# Altium footprint library footprint_hall_crossboard_1_1_library.PcbLib: 95 footprints (part 5 of 7)
Each footprint in its own frame and in the unit in brackets; x right, y up, seen from the top. Pads: shape width x height; smd on the part's side, far side on the other; paste and mask are expansions set on the pad; w line width, h text height; cw(c..) or ccw(c..) is an arc to the next point about the centre after c.
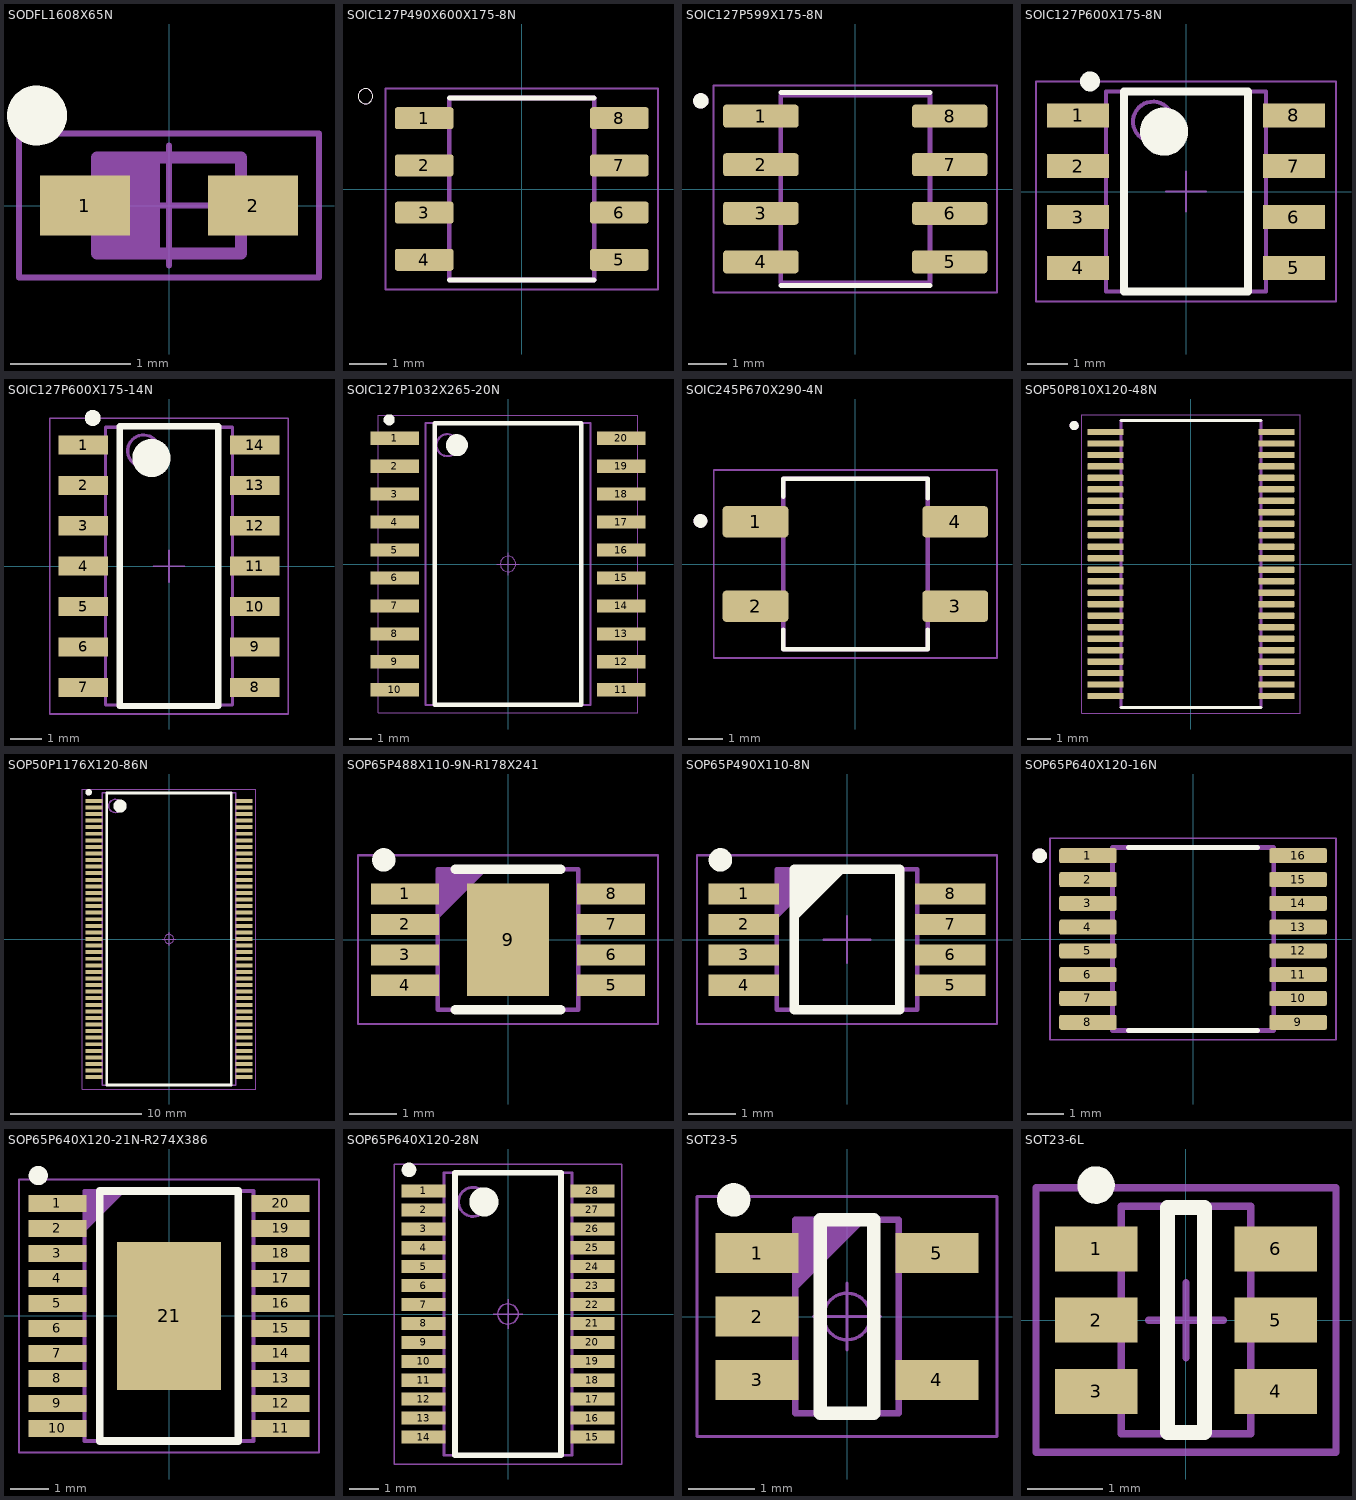
[diagram p4: the footprints below, top view; thin cyan lines are the x and y axes]

## SODFL1608X65N [mm] "Ultra Small Outline Diode Flat Lead (SOD-523), Body; 1.2mm L X 0.8mm W X 0.65mm H, IPC Medium Density"
height 0.65
pads (2):
  rect 0.75x0.5 smd: 1(-0.7,0) 2(0.7,0)
Top Overlay:
  circle w0.25: c-1.1,0.75 r0.125
Mechanical 14:
  lines w0.1: -0.5,-0.4 -0.5,0.4 ; -0.425,-0.4 -0.425,0.4 ; -0.35,-0.4 -0.35,0.4 ; -0.275,-0.4 -0.275,0.4 ; -0.2,0.4 -0.2,-0.4 -0.175,-0.4 ; -0.125,-0.4 -0.125,0.4 ; -0.6,-0.4 0.6,-0.4 0.6,0.4 -0.6,0.4 -0.6,-0.4
Mechanical 15:
  lines w0.05: -0.5,0 0.5,0 ; 0,-0.5 0,0.5 ; -1.25,-0.6 1.25,-0.6 1.25,0.6 -1.25,0.6 -1.25,-0.6
3D body "SODFL1608X65N.stp": height 0.65, standoff 0, extent -0.825,-0.425 0.825,0.425

## SOIC127P490X600X175-8N [mm]
pads (8):
  rrect25% 1.58x0.59 smd: 1(-2.625,1.905) 2(-2.625,0.635) 3(-2.625,-0.635) 4(-2.625,-1.905) 5(2.625,-1.905) 6(2.625,-0.635) 7(2.625,0.635) 8(2.625,1.905)
Top Overlay:
  circle w0: c-4.205,2.495 r0.2
  lines w0.127: -1.95,-2.45 1.95,-2.45 ; -1.95,2.45 1.95,2.45
Mechanical 13:
  circle w0: c-4.205,2.495 r0.2
  lines w0.127: -1.95,-2.45 1.95,-2.45 1.95,2.45 -1.95,2.45 -1.95,-2.45
Mechanical 15:
  lines w0.05: -3.665,-2.7 3.665,-2.7 3.665,2.7 -3.665,2.7 -3.665,-2.7
3D body "step_temp.STEP": height 1.75, standoff 0, extent -3,-2.5 3,2.5

## SOIC127P599X175-8N [mm]
pads (8):
  rrect25% 1.97x0.6 smd: 1(-2.47,1.905) 2(-2.47,0.635) 3(-2.47,-0.635) 4(-2.47,-1.905) 5(2.47,-1.905) 6(2.47,-0.635) 7(2.47,0.635) 8(2.47,1.905)
Top Overlay:
  circle w0.2: c-4.04,2.305 r0.1
  lines w0.127: -1.95,-2.525 1.95,-2.525 ; -1.95,2.525 1.95,2.525
Mechanical 13:
  circle w0.2: c-4.04,2.305 r0.1
  lines w0.127: -1.95,-2.452 -1.95,2.452 1.95,2.452 1.95,-2.452 -1.95,-2.452
Mechanical 15:
  lines w0.05: -3.705,-2.702 -3.705,2.702 3.705,2.702 3.705,-2.702 -3.705,-2.702
3D body "step_temp.STEP": height 1.75, standoff 0, extent -2.997,-2.451 2.997,2.451

## SOIC127P600X175-8N [mm] "SOIC 8, Pitch 1.27mm - Body 4x5mm, IPC Medium Density"
height 1.75
pads (8):
  rect 1.55x0.6 smd: 1(-2.7,1.905) 2(-2.7,0.635) 3(-2.7,-0.635) 4(-2.7,-1.905) 5(2.7,-1.905) 6(2.7,-0.635) 7(2.7,0.635) 8(2.7,1.905)
Top Overlay:
  circle w0.25: c-2.4,2.755 r0.125
  circle w0.6: c-0.55,1.5 r0.3
  lines w0.2: -1.55,-2.5 -1.55,2.5 1.55,2.5 1.55,-2.5 -1.55,-2.5
Mechanical 14:
  circle w0.1: c-0.825,1.75 r0.5
  lines w0.1: -2,-2.5 -2,2.5 2,2.5 2,-2.5 -2,-2.5
Mechanical 15:
  lines w0.05: -0.5,0 0.5,0 ; 0,-0.5 0,0.5 ; -3.75,-2.75 -3.75,2.75 3.75,2.75 3.75,-2.75 -3.75,-2.75
3D body "SOIC127P600X175-8N.stp": height 1.75, standoff 0, extent -3.1,-2.5 3.1,2.5

## SOIC127P600X175-14N [mm] "SOIC 14, Pitch 1.27mm - Body 4x8.75mm, IPC Medium Density"
height 1.75
pads (14):
  rect 1.55x0.6 smd: 1(-2.7,3.81) 2(-2.7,2.54) 3(-2.7,1.27) 4(-2.7,0) 5(-2.7,-1.27) 6(-2.7,-2.54) 7(-2.7,-3.81) 8(2.7,-3.81) 9(2.7,-2.54) 10(2.7,-1.27) 11(2.7,0) 12(2.7,1.27) 13(2.7,2.54) 14(2.7,3.81)
Top Overlay:
  circle w0.6: c-0.55,3.4 r0.3
  circle w0.25: c-2.4,4.66 r0.125
  lines w0.2: -1.55,-4.4 1.55,-4.4 1.55,4.4 -1.55,4.4 -1.55,-4.4
Mechanical 14:
  circle w0.1: c-0.8,3.625 r0.5
  lines w0.1: -2,-4.37 2,-4.37 2,4.37 -2,4.37 -2,-4.37
Mechanical 15:
  lines w0.05: -0.5,0 0.5,0 ; 0,-0.5 0,0.5 ; -3.75,-4.65 3.75,-4.65 3.75,4.65 -3.75,4.65 -3.75,-4.65
3D body "SOIC127P600X175-14N.stp": height 1.75, standoff 0, extent -3.1,-4.375 3.1,4.375

## SOIC127P1032X265-20N [mm] "SOIC, 1.27mm pitch; 20 pin, 7.50mm W X 12.80mm L X 2.65mm H body, IPC Medium Density"
height 2.65
pads (20):
  rect 2.2x0.6 smd: 1(-5.15,5.715) 2(-5.15,4.445) 3(-5.15,3.175) 4(-5.15,1.905) 5(-5.15,0.635) 6(-5.15,-0.635) 7(-5.15,-1.905) 8(-5.15,-3.175) 9(-5.15,-4.445) 10(-5.15,-5.715) 11(5.15,-5.715) 12(5.15,-4.445) 13(5.15,-3.175) 14(5.15,-1.905) 15(5.15,-0.635) 16(5.15,0.635) 17(5.15,1.905) 18(5.15,3.175) 19(5.15,4.445) 20(5.15,5.715)
Top Overlay:
  circle w0.5: c-2.325,5.4 r0.25
  circle w0.25: c-5.4,6.55 r0.125
  lines w0.2: -3.325,-6.4 3.325,-6.4 3.325,6.4 -3.325,6.4 -3.325,-6.4
Mechanical 14:
  circle w0.1: c-2.75,5.4 r0.5
  lines w0.1: -3.75,-6.4 3.75,-6.4 3.75,6.4 -3.75,6.4 -3.75,-6.4
Mechanical 15:
  circle w0.05: c0,0 r0.35
  lines w0.05: -0.5,0 0.5,0 ; 0,-0.5 0,0.5 ; -5.9,-6.75 5.9,-6.75 5.9,6.75 -5.9,6.75 -5.9,-6.75
3D body "SOIC127P1032X265-20N.stp": height 1.68, standoff 0, extent -5.18,-6.5 5.18,6.5

## SOIC245P670X290-4N [mm]
pads (4):
  rrect23% 1.91x0.91 smd: 1(-2.9,1.225) 2(-2.9,-1.225) 3(2.9,-1.225) 4(2.9,1.225)
Top Overlay:
  circle w0.2: c-4.5,1.25 r0.1
  lines w0.127: -2.1,-1.9 -2.1,-2.48 2.1,-2.48 2.1,-1.9 ; -2.1,1.95 -2.1,2.48 2.1,2.48 2.1,1.9
Mechanical 13:
  circle w0.2: c-4.5,1.25 r0.1
  lines w0.127: -2.1,-2.48 2.1,-2.48 2.1,2.48 -2.1,2.48 -2.1,-2.48
Mechanical 15:
  lines w0.05: -4.11,-2.73 -4.11,2.73 4.11,2.73 4.11,-2.73 -4.11,-2.73

## SOP50P810X120-48N [mm]
pads (48):
  rrect25% 1.57x0.28 smd: 1(-3.72,5.75) 2(-3.72,5.25) 3(-3.72,4.75) 4(-3.72,4.25) 5(-3.72,3.75) 6(-3.72,3.25) 7(-3.72,2.75) 8(-3.72,2.25) 9(-3.72,1.75) 10(-3.72,1.25) 11(-3.72,0.75) 12(-3.72,0.25) 13(-3.72,-0.25) 14(-3.72,-0.75) 15(-3.72,-1.25) 16(-3.72,-1.75) 17(-3.72,-2.25) 18(-3.72,-2.75) 19(-3.72,-3.25) 20(-3.72,-3.75) 21(-3.72,-4.25) 22(-3.72,-4.75) 23(-3.72,-5.25) 24(-3.72,-5.75) 25(3.72,-5.75) 26(3.72,-5.25) 27(3.72,-4.75) 28(3.72,-4.25) 29(3.72,-3.75) 30(3.72,-3.25) 31(3.72,-2.75) 32(3.72,-2.25) 33(3.72,-1.75) 34(3.72,-1.25) 35(3.72,-0.75) 36(3.72,-0.25) 37(3.72,0.25) 38(3.72,0.75) 39(3.72,1.25) 40(3.72,1.75) 41(3.72,2.25) 42(3.72,2.75) 43(3.72,3.25) 44(3.72,3.75) 45(3.72,4.25) 46(3.72,4.75) 47(3.72,5.25) 48(3.72,5.75)
Top Overlay:
  circle w0.2: c-5.09,6.03 r0.1
  lines w0.127: -3.05,-6.25 3.05,-6.25 ; -3.05,6.25 3.05,6.25
Mechanical 13:
  circle w0.2: c-5.09,6.03 r0.1
  lines w0.127: -3.05,-6.25 3.05,-6.25 3.05,6.25 -3.05,6.25 -3.05,-6.25
Mechanical 15:
  lines w0.05: -4.755,-6.5 4.755,-6.5 4.755,6.5 -4.755,6.5 -4.755,-6.5

## SOP50P1176X120-86N [mm] "SOP, 0.50mm, pitch; 86 pin, 10.16mm W X 22.22mm L X 1.20mm H body, IPC Medium Density"
height 1.2
pads (86):
  rect 1.3x0.3 smd: 1(-5.7,10.5) 2(-5.7,10) 3(-5.7,9.5) 4(-5.7,9) 5(-5.7,8.5) 6(-5.7,8) 7(-5.7,7.5) 8(-5.7,7) 9(-5.7,6.5) 10(-5.7,6) 11(-5.7,5.5) 12(-5.7,5) 13(-5.7,4.5) 14(-5.7,4) 15(-5.7,3.5) 16(-5.7,3) 17(-5.7,2.5) 18(-5.7,2) 19(-5.7,1.5) 20(-5.7,1) 21(-5.7,0.5) 22(-5.7,0) 23(-5.7,-0.5) 24(-5.7,-1) 25(-5.7,-1.5) 26(-5.7,-2) 27(-5.7,-2.5) 28(-5.7,-3) 29(-5.7,-3.5) 30(-5.7,-4) 31(-5.7,-4.5) 32(-5.7,-5) 33(-5.7,-5.5) 34(-5.7,-6) 35(-5.7,-6.5) 36(-5.7,-7) 37(-5.7,-7.5) 38(-5.7,-8) 39(-5.7,-8.5) 40(-5.7,-9) 41(-5.7,-9.5) 42(-5.7,-10) 43(-5.7,-10.5) 44(5.7,-10.5) 45(5.7,-10) 46(5.7,-9.5) 47(5.7,-9) 48(5.7,-8.5) 49(5.7,-8) 50(5.7,-7.5) 51(5.7,-7) 52(5.7,-6.5) 53(5.7,-6) 54(5.7,-5.5) 55(5.7,-5) 56(5.7,-4.5) 57(5.7,-4) 58(5.7,-3.5) 59(5.7,-3) 60(5.7,-2.5) 61(5.7,-2) 62(5.7,-1.5) 63(5.7,-1) 64(5.7,-0.5) 65(5.7,0) 66(5.7,0.5) 67(5.7,1) 68(5.7,1.5) 69(5.7,2) 70(5.7,2.5) 71(5.7,3) 72(5.7,3.5) 73(5.7,4) 74(5.7,4.5) 75(5.7,5) 76(5.7,5.5) 77(5.7,6) 78(5.7,6.5) 79(5.7,7) 80(5.7,7.5) 81(5.7,8) 82(5.7,8.5) 83(5.7,9) 84(5.7,9.5) 85(5.7,10) 86(5.7,10.5)
Top Overlay:
  circle w0.5: c-3.725,10.1 r0.25
  circle w0.25: c-6.1,11.15 r0.125
  lines w0.2: -4.725,-11.1 4.725,-11.1 4.725,11.1 -4.725,11.1 -4.725,-11.1
Mechanical 14:
  circle w0.1: c-4.08,10.11 r0.5
  lines w0.1: -5.08,-11.11 5.08,-11.11 5.08,11.11 -5.08,11.11 -5.08,-11.11
Mechanical 15:
  circle w0.05: c0,0 r0.35
  lines w0.05: -0.5,0 0.5,0 ; 0,-0.5 0,0.5 ; -6.6,-11.4 6.6,-11.4 6.6,11.4 -6.6,11.4 -6.6,-11.4
3D body "SOP50P1176X120-86N.stp": height 1.2, standoff 0, extent -5.97,-11.15 5.97,11.15

## SOP65P488X110-9N-R178X241 [mm] "SOP, 8-Leads, Body 3x3mm (max), Pitch 0.65mm, (w/thermal tab 2 .41 X 1.78 mm), IPC Medium Density"
height 1.1
pads (9):
  rect 1.45x0.45 smd: 1(-2.2,0.975) 2(-2.2,0.325) 3(-2.2,-0.325) 4(-2.2,-0.975) 5(2.2,-0.975) 6(2.2,-0.325) 7(2.2,0.325) 8(2.2,0.975)
  rect 1.75x2.4 smd: 9(0,0)
Top Overlay:
  circle w0.25: c-2.65,1.7 r0.125
  lines w0.2: -1.125,-1.5 1.125,-1.5 ; -1.125,1.5 1.125,1.5
Mechanical 14:
  lines w0.1: -1.5,0.5 -0.5,1.5 ; -1.5,0.6 -0.6,1.5 ; -1.5,0.7 -0.7,1.5 ; -1.5,0.8 -0.8,1.5 ; -1.5,0.9 -0.9,1.5 ; -1.5,1 -1,1.5 ; -1.5,1.1 -1.1,1.5 ; -1.5,1.2 -1.2,1.5 ; -1.5,1.3 -1.3,1.5 ; -1.5,1.4 -1.4,1.5 ; -1.5,-1.5 -1.5,1.5 1.5,1.5 1.5,-1.5 -1.5,-1.5
Mechanical 15:
  lines w0.05: -0.5,0 0.5,0 ; 0,-0.5 0,0.5 ; -3.2,-1.8 3.2,-1.8 3.2,1.8 -3.2,1.8 -3.2,-1.8
3D body "SOP65P488X110-9N-R178X241.stp": height 1.1, standoff 0, extent -2.45,-1.55 2.45,1.55

## SOP65P490X110-8N [mm] "SOP, 0.65mm pitch; 8 pin, 3.00mm W X 3.00mm L X 1.10mm H body, IPC Medium Density"
height 1.1
pads (8):
  rect 1.5x0.45 smd: 1(-2.2,0.975) 2(-2.2,0.325) 3(-2.2,-0.325) 4(-2.2,-0.975) 5(2.2,-0.975) 6(2.2,-0.325) 7(2.2,0.325) 8(2.2,0.975)
Top Overlay:
  circle w0.25: c-2.7,1.7 r0.125
  lines w0.2: -1.125,0.5 -0.125,1.5 ; -1.125,0.7 -0.325,1.5 ; -1.125,0.9 -0.525,1.5 ; -1.125,1.1 -0.725,1.5 ; -1.125,1.3 -0.925,1.5 ; -1.125,-1.5 -1.125,1.5 1.125,1.5 1.125,-1.5 -1.125,-1.5
Mechanical 14:
  lines w0.1: -1.5,0.5 -0.5,1.5 ; -1.5,0.6 -0.6,1.5 ; -1.5,0.7 -0.7,1.5 ; -1.5,0.8 -0.8,1.5 ; -1.5,0.9 -0.9,1.5 ; -1.5,1 -1,1.5 ; -1.5,1.1 -1.1,1.5 ; -1.5,1.2 -1.2,1.5 ; -1.5,1.3 -1.3,1.5 ; -1.5,1.4 -1.4,1.5 ; -1.5,-1.5 -1.5,1.5 1.5,1.5 1.5,-1.5 -1.5,-1.5
Mechanical 15:
  lines w0.05: -0.5,0 0.5,0 ; 0,-0.5 0,0.5 ; -3.2,-1.8 3.2,-1.8 3.2,1.8 -3.2,1.8 -3.2,-1.8
3D body "SOP65P490X110-8N.stp": height 1.1, standoff 0, extent -2.45,-1.55 2.45,1.55

## SOP65P640X120-16N [mm]
pads (16):
  rrect25% 1.57x0.41 smd: 1(-2.87,2.275) 2(-2.87,1.625) 3(-2.87,0.975) 4(-2.87,0.325) 5(-2.87,-0.325) 6(-2.87,-0.975) 7(-2.87,-1.625) 8(-2.87,-2.275) 9(2.87,-2.275) 10(2.87,-1.625) 11(2.87,-0.975) 12(2.87,-0.325) 13(2.87,0.325) 14(2.87,0.975) 15(2.87,1.625) 16(2.87,2.275)
Top Overlay:
  circle w0.2: c-4.19,2.275 r0.1
  lines w0.127: -1.765,-2.5 1.765,-2.5 ; -1.765,2.5 1.765,2.5
Mechanical 13:
  circle w0.2: c-4.19,2.275 r0.1
  lines w0.127: -2.2,-2.5 -2.2,2.5 2.2,2.5 2.2,-2.5 -2.2,-2.5
Mechanical 15:
  lines w0.05: -3.905,-2.75 -3.905,2.75 3.905,2.75 3.905,-2.75 -3.905,-2.75
3D body "step_temp.STEP": height 1.2, standoff 0, extent -3.2,-2.5 3.2,2.5

## SOP65P640X120-21N-R274X386 [mm] "SOP, 0.65mm Pitch; 20 Pin, 4.40mm W X 6.50mm L X 1.20mm H body (w/thermal tab 2.74mm X 3.86mm  ), IPC Medium Density"
height 1.2
pads (21):
  rect 1.5x0.45 smd: 1(-2.9,2.925) 2(-2.9,2.275) 3(-2.9,1.625) 4(-2.9,0.975) 5(-2.9,0.325) 6(-2.9,-0.325) 7(-2.9,-0.975) 8(-2.9,-1.625) 9(-2.9,-2.275) 10(-2.9,-2.925) 11(2.9,-2.925) 12(2.9,-2.275) 13(2.9,-1.625) 14(2.9,-0.975) 15(2.9,-0.325) 16(2.9,0.325) 17(2.9,0.975) 18(2.9,1.625) 19(2.9,2.275) 20(2.9,2.925)
  rect 2.7x3.85 smd: 21(0,0)
Top Overlay:
  circle w0.25: c-3.4,3.65 r0.125
  lines w0.2: -1.8,-3.25 1.8,-3.25 1.8,3.25 -1.8,3.25 -1.8,-3.25
Mechanical 14:
  lines w0.1: -2.2,2.25 -1.2,3.25 ; -2.2,2.35 -1.3,3.25 ; -2.2,2.45 -1.4,3.25 ; -2.2,2.55 -1.5,3.25 ; -2.2,2.65 -1.6,3.25 ; -2.2,2.75 -1.7,3.25 ; -2.2,2.85 -1.8,3.25 ; -2.2,2.95 -1.9,3.25 ; -2.2,3.05 -2,3.25 ; -2.2,3.15 -2.1,3.25 ; -2.2,-3.25 2.2,-3.25 2.2,3.25 -2.2,3.25 -2.2,-3.25
Mechanical 15:
  circle w0.05: c0,0 r0.35
  lines w0.05: -0.5,0 0.5,0 ; 0,-0.5 0,0.5 ; -3.9,-3.55 3.9,-3.55 3.9,3.55 -3.9,3.55 -3.9,-3.55
3D body "SOP65P640X120-21N-R274X386.stp": height 1.2, standoff 0, extent -3.3,-3.3 3.3,3.3

## SOP65P640X120-28N [mm] "SOP, 0.65mm Pitch; 28 Pin, 4.40mm W X 9.70mm L X 1.20mm H body, IPC Medium Density"
height 1.2
pads (28):
  rect 1.5x0.45 smd: 1(-2.9,4.225) 2(-2.9,3.575) 3(-2.9,2.925) 4(-2.9,2.275) 5(-2.9,1.625) 6(-2.9,0.975) 7(-2.9,0.325) 8(-2.9,-0.325) 9(-2.9,-0.975) 10(-2.9,-1.625) 11(-2.9,-2.275) 12(-2.9,-2.925) 13(-2.9,-3.575) 14(-2.9,-4.225) 15(2.9,-4.225) 16(2.9,-3.575) 17(2.9,-2.925) 18(2.9,-2.275) 19(2.9,-1.625) 20(2.9,-0.975) 21(2.9,-0.325) 22(2.9,0.325) 23(2.9,0.975) 24(2.9,1.625) 25(2.9,2.275) 26(2.9,2.925) 27(2.9,3.575) 28(2.9,4.225)
Top Overlay:
  circle w0.5: c-0.825,3.85 r0.25
  circle w0.25: c-3.4,4.95 r0.125
  lines w0.2: -1.825,-4.85 1.825,-4.85 1.825,4.85 -1.825,4.85 -1.825,-4.85
Mechanical 14:
  circle w0.1: c-1.2,3.85 r0.5
  lines w0.1: -2.2,-4.85 2.2,-4.85 2.2,4.85 -2.2,4.85 -2.2,-4.85
Mechanical 15:
  circle w0.05: c0,0 r0.35
  lines w0.05: -0.5,0 0.5,0 ; 0,-0.5 0,0.5 ; -3.9,-5.15 3.9,-5.15 3.9,5.15 -3.9,5.15 -3.9,-5.15
3D body "SOP65P640X120-28N.stp": height 1.2, standoff 0, extent -3.121,-4.9 3.121,4.9

## SOT23-5 [mm] "SOT, 0.95mm Pitch; 5 Pin,1.55mm W X 2.90mm L X 1.45mm H body, IPC Medium Density"
height 1.45
pads (5):
  rect 1.25x0.6 smd: 1(-1.35,0.95) 2(-1.35,0) 3(-1.35,-0.95) 4(1.35,-0.95) 5(1.35,0.95)
Top Overlay:
  circle w0.25: c-1.7,1.75 r0.125
  lines w0.2: -0.4,-1.45 0.4,-1.45 0.4,1.45 -0.4,1.45 -0.4,-1.45
Mechanical 14:
  lines w0.1: -0.775,0.45 0.225,1.45 ; -0.775,0.55 0.125,1.45 ; -0.775,0.65 0.025,1.45 ; -0.775,0.75 -0.075,1.45 ; -0.775,0.85 -0.175,1.45 ; -0.775,0.95 -0.275,1.45 ; -0.775,1.05 -0.375,1.45 ; -0.775,1.15 -0.475,1.45 ; -0.775,1.25 -0.575,1.45 ; -0.775,1.35 -0.675,1.45 ; -0.775,-1.45 0.775,-1.45 0.775,1.45 -0.775,1.45 -0.775,-1.45
Mechanical 15:
  circle w0.05: c0,0 r0.35
  lines w0.05: -0.5,0 0.5,0 ; 0,-0.5 0,0.5 ; -2.25,-1.8 2.25,-1.8 2.25,1.8 -2.25,1.8 -2.25,-1.8
3D body "SOT95P270X145-5N.stp": height 1.45, standoff 0.01, extent -1.351,-1.45 1.351,1.45

## SOT23-6L [mm]
height 1.25
pads (6):
  rect 1.1x0.6 smd: 1(-1.2,0.95) 2(-1.2,0) 3(-1.2,-0.95) 4(1.2,-0.95) 5(1.2,0) 6(1.2,0.95)
Top Overlay:
  circle w0.25: c-1.2,1.8 r0.125
  lines w0.2: -0.25,-1.5 0.25,-1.5 0.25,1.5 -0.25,1.5 -0.25,-1.5
Mechanical 13:
  lines w0.1: -0.865,-1.515 -0.865,1.515 0.865,1.515 0.865,-1.515 -0.865,-1.515
Mechanical 15:
  lines w0.1: -0.5,0 0.5,0 ; 0,-0.5 0,0.5 ; -2,-1.763 -2,1.763 2,1.763 2,-1.763 -2,-1.763
3D body: height 1.25, standoff 0.05, extent -0.865,-1.515 0.865,1.515